# Altium footprint library HMC5883L.PcbLib: 1 footprints
Each footprint in its own frame and in the unit in brackets; x right, y up, seen from the top. Pads: shape width x height; smd on the part's side, far side on the other; paste and mask are expansions set on the pad; w line width, h text height; cw(c..) or ccw(c..) is an arc to the next point about the centre after c.
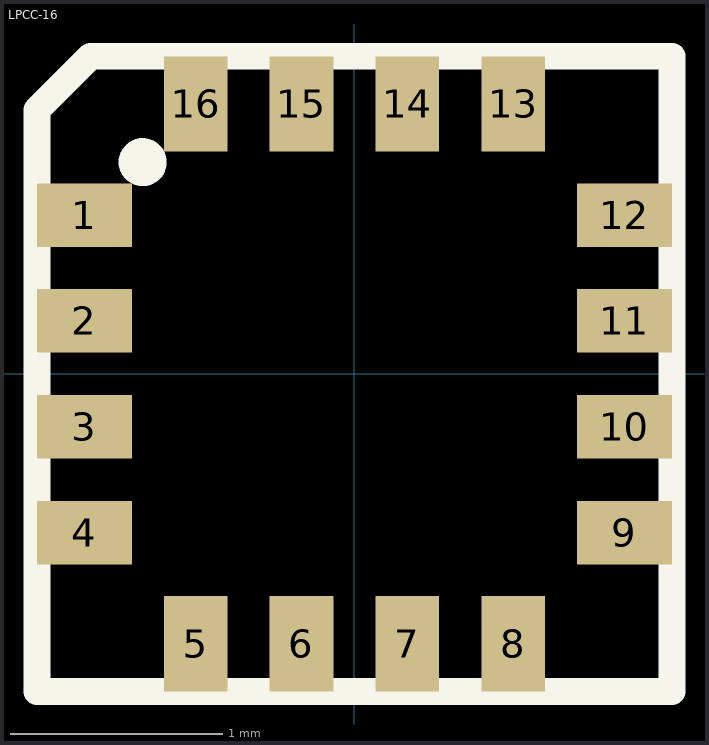
[diagram p0: the footprint, top view; thin cyan lines are the x and y axes]

## LPCC-16 [mm]
pads (16):
  rect 0.45x0.3 smd: 1(-1.275,0.75) 2(-1.275,0.25) 3(-1.275,-0.25) 4(-1.275,-0.75) 9(1.275,-0.75) 10(1.275,-0.25) 11(1.275,0.25) 12(1.275,0.75)
  rect 0.3x0.45 smd: 5(-0.75,-1.275) 6(-0.25,-1.275) 7(0.25,-1.275) 8(0.75,-1.275) 13(0.75,1.275) 14(0.25,1.275) 15(-0.25,1.275) 16(-0.75,1.275)
Top Overlay:
  circle w0.127: c-1,1 r0.05
  lines w0.127: -1.5,-1.5 1.5,-1.5 1.5,1.5 -1.246,1.5 -1.5,1.246 -1.5,-1.5
Top Paste:
  region: 0.649,-1.501 0.649,-1.103 0.853,-1.103 0.853,-1.501
  region: 0.149,-1.501 0.149,-1.101 0.351,-1.101 0.351,-1.501
  region: -0.353,-1.503 -0.353,-1.102 -0.148,-1.102 -0.148,-1.503
  region: -0.853,-1.503 -0.853,-1.101 -0.649,-1.101 -0.649,-1.503
  region: -0.652,1.502 -0.652,1.1 -0.85,1.1 -0.85,1.502
  region: -0.152,1.502 -0.152,1.101 -0.349,1.101 -0.349,1.502
  region: 0.348,1.502 0.348,1.102 0.152,1.102 0.152,1.502
  region: 0.849,1.501 0.849,1.103 0.653,1.103 0.653,1.501
  region: 1.5,0.651 1.101,0.651 1.101,0.85 1.5,0.85
  region: 1.5,0.15 1.101,0.15 1.101,0.35 1.5,0.35
  region: 1.5,-0.351 1.102,-0.351 1.102,-0.15 1.5,-0.15
  region: 1.5,-0.851 1.102,-0.851 1.102,-0.65 1.5,-0.65
  region: -1.504,-0.65 -1.1,-0.65 -1.1,-0.852 -1.504,-0.852
  region: -1.504,-0.15 -1.1,-0.15 -1.1,-0.351 -1.504,-0.351
  region: -1.502,0.35 -1.1,0.35 -1.1,0.15 -1.502,0.15
  region: -1.504,0.85 -1.1,0.85 -1.1,0.652 -1.504,0.652